# EAGLE library part H11L1 (library FCC_parts)
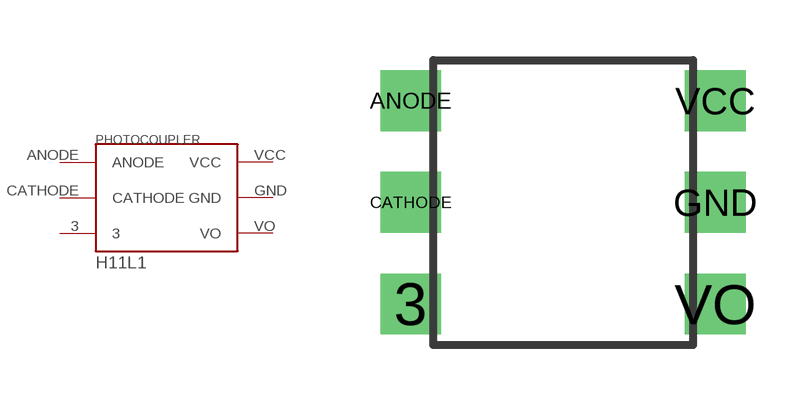
[diagram p2: symbol with the pads of H11L1; footprint H11L1]

Designator prefix I

## H11L1H11L1  [H11L1]
3  3
ANODE  ANODE
CATHODE  CATHODE
GND  GND
VCC  VCC
VO  VO

## Footprint H11L1 (pad centres in mm)
drill 1.016 square: 3 -3.81,-2.54; ANODE -3.81,2.54; CATHODE -3.81,0; GND 3.81,0; VCC 3.81,2.54; VO 3.81,-2.54